# Altium schematic symbol library breakout_board.SCHLIB: 12 symbols
Pins are listed as number, name and electrical type; pins without a type are passive.

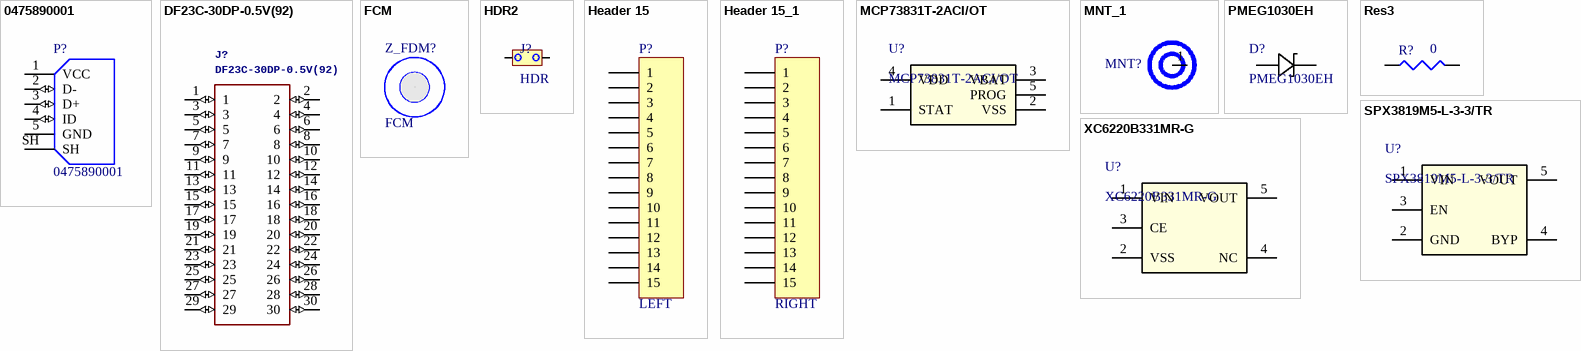
[diagram p0: symbols 0475890001 to XC6220B331MR-G]

## 0475890001
designator P?
CONN RCPT MICRO USB AB 5P SMD RA; Mfg: Molex; MPN: 0475890001; Supplier PN: WM17143CT-ND
footprint *MOLEX_0475890001
pins: 1 VCC (power), 2 D- (io), 3 D+ (io), 4 ID (io), 5 GND (power), SH (power)

## DF23C-30DP-0.5V(92)
designator J?
Manufacturer_Name: Hirose; GateName_1: G$1; Allied_Number: R1050738; SymbolName_1: DF23C-30DP-0.5V(92); LibraryName: DF23C-30DP-0.5V(92); DeviceSetName: DF23C-30DP-0.5V(92); Package: DF23C30DP05V92; Manufacturer_Part_Number: DF23C-30DP-0.5V(92); Mouser_Part_Number: 798-DF23C30DP05V92; Mouser_Price-Stock: https://www.mouser.com/Search/Refine.aspx?Keyword=798-DF23C30DP05V92; RS_Part_Number: 7241056; RS_Price-Stock: https://uk.rs-online.com/web/p/products/7241056; Allied_Price-Stock: https://www.alliedelec.com/hirose-electric-df23c-30dp-0-5v-92-/R1050738/; Height: 1mm
footprint SOM-SMD
pins: 1 (io), 2 (io), 3 (io), 4 (io), 5 (io), 6 (io), 7 (io), 8 (io), 9 (io), 10 (io), 11 (io), 12 (io), 13 (io), 14 (io), 15 (io), 16 (io), 17 (io), 18 (io), 19 (io), 20 (io), 21 (io), 22 (io), 23 (io), 24 (io), 25 (io), 26 (io), 27 (io), 28 (io), 29 (io), 30 (io)

## FCM
designator Z_FDM?
footprint FID100X250N
pins: 1

## HDR2
designator J?, comment HDR
SIL VERTICAL PC TAIL PIN HEADER; Manufacturer: Harwin Inc.; Manufacturer Part Number: M20-9990246; Digi-Key Part Number: 952-2262-ND; Supplier: Digi-Key
footprint HDR1X2 (Connector; Header; 2 Position)
pins: 1, 2

## Header 15
designator P?, comment LEFT
Header, 15-Pin; LatestRevisionDate: 17-Jul-2002; LatestRevisionNote: Re-released for DXP Platform.; Publisher: Altium Limited
footprint HDR1X15 (Connector; Header; 15 Position)
signal-integrity model Connector
pins: 1, 2, 3, 4, 5, 6, 7, 8, 9, 10, 11, 12, 13, 14, 15

## Header 15_1
designator P?, comment RIGHT
Header, 15-Pin; LatestRevisionDate: 17-Jul-2002; LatestRevisionNote: Re-released for DXP Platform.; Publisher: Altium Limited
footprint HDR1X15 (Connector; Header; 15 Position)
signal-integrity model Connector
pins: 1, 2, 3, 4, 5, 6, 7, 8, 9, 10, 11, 12, 13, 14, 15

## MCP73831T-2ACI/OT
designator U?
IC CONTROLLR LI-ION 4.2V SOT23-5; Manufacturer: Microchip; SourceLibrary: Microchip_2011-05-13; Manufacturer Product Number: MCP73831T-2ACI/OT; Digi-Key Part Number: MCP73831T-2ACI/OTTR-ND; Copyright: Copyright (C) 2018 Accelerated Designs. All rights reserved; RefDes: RefDes; Type: DEV
footprint SOT-23-5
pins: 1 STAT, 2 VSS, 3 VBAT, 4 VDD, 5 PROG

## MNT_1
designator MNT?, comment MOUNTING HOLE  (value not drawn)
Part #: NA; Notes: PCB; Emcraft #: NA
footprint MNT620-275N
footprint MNT650-320N
pins: 1 GND

## PMEG1030EH
designator D?
DIODE SCHOTTKY 10V 3A SOD123F; Manufacturer: Nexperia USA Inc.; SourceLibrary: NXP_2011-11-10; Type: DEV; Manufacturer Product Number: PMEG1030EH; Digi-Key Part Number: 1727-3851-2-ND; Copyright: Copyright (C) 2018 Accelerated Designs. All rights reserved; RefDes: RefDes
footprint SOD123F_NXP
pins: 1, 2

## Res3
designator R?  value 0  (hidden comment: Res3)  (net tie, no BOM)
Resistor; Published: 8-Jun-2000; LatestRevisionDate: 29-May-2009; LatestRevisionNote: IPC-7351 Footprint Added.; PackageReference: J1-0603; Publisher: Altium Limited; PackageDescription: Chip Resistor
footprint J1-0603 (Chip Resistor, Body 1.6x0.8mm, IPC High Density)
footprint 14-1210 (Chip Resistor, Body 3.2x2.5mm, IPC High Density)
footprint 12Z-2010 (Chip Resistor, Body 5.0x2.5mm, IPC High Density)
footprint RESC6332 (Chip Resistor, Body 6.3x3.2mm, IPC High Density)
simulation model RESISTOR (Resistor)
signal-integrity model Res
footprint J1-0603 - short (Chip Resistor, Body 1.6x0.8mm, IPC High Density)
pins: 1, 2

## SPX3819M5-L-3-3/TR
designator U?
IC REG LINEAR 3.3V 500MA SOT23-5; Manufacturer: MaxLinear, Inc.; Manufacturer Product Number: SPX3819M5-L-3-3/TR; Digi-Key Part Number: 1016-1873-2-ND
footprint SOT-23-5
pins: 1 VIN, 2 GND, 3 EN, 4 BYP, 5 VOUT

## XC6220B331MR-G
designator U?
IC REG LINEAR 3.3V 1A SOT25; Manufacturer: Torex Semiconductor; SourceLibrary: Torex_2016-07-08_6; Manufacturer Product Number: XC6220B331MR-G; Digi-Key Part Number: 893-1133-2-ND; Copyright: Copyright (C) 2018 Accelerated Designs. All rights reserved; RefDes: RefDes; Type: DEV
footprint SOT-25
pins: 1 VIN, 2 VSS, 3 CE, 4 NC, 5 VOUT